# Altium footprint library BLE UART.PcbLib: 1 footprints
Each footprint in its own frame and in the unit in brackets; x right, y up, seen from the top. Pads: shape width x height; smd on the part's side, far side on the other; paste and mask are expansions set on the pad; w line width, h text height; cw(c..) or ccw(c..) is an arc to the next point about the centre after c.
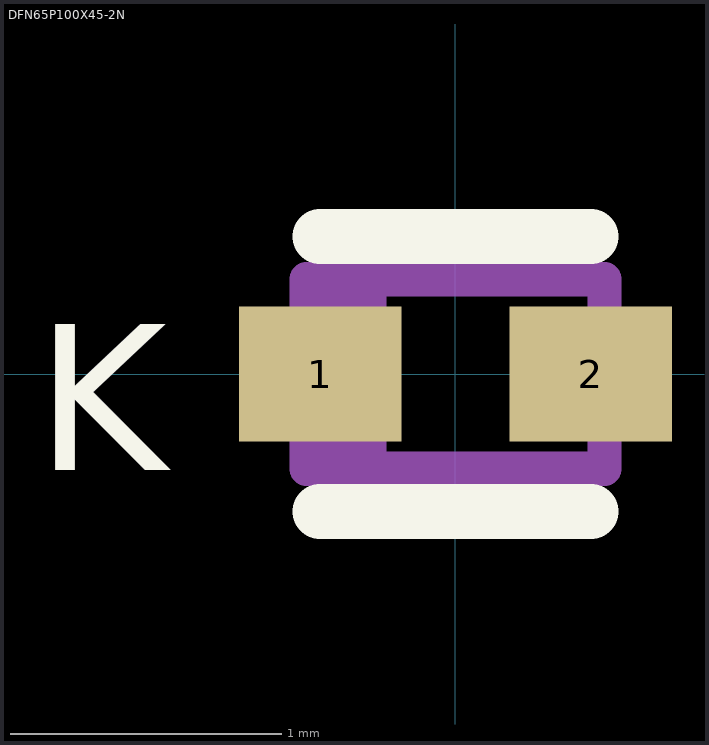
[diagram p0: the footprint, top view; thin cyan lines are the x and y axes]

## DFN65P100X45-2N [mm] "DFN, 2-Leads, Body 0.60x1.00mm, Pitch 0.65mm, IPC Medium Density"
height 0.45
pads (2):
  rect 0.6x0.5 smd mask+0.051: 1(-0.5,0) 2(0.5,0)
Top Overlay:
  lines w0.203: -0.5,-0.508 0.5,-0.508 ; -0.5,0.508 0.5,0.508
  text "K" at -1.549,-0.356 h0.76
Mechanical 1:
  text ".Designator" at -0.152,-0.127 h0.51
Mechanical 15 (Mech15):
  rectangle: -0.508,-0.35 -0.254,0.33
  lines w0.127: -0.55,-0.35 -0.55,0.35 0.55,0.35 0.55,-0.35 -0.55,-0.35
3D body "DFN65P100X45-2N.step": height 0.45, standoff 0, extent -0.55,-0.35 0.55,0.35